# Altium footprint library SCF19XV3001R9A003JV.PcbLib: 1 footprints
Each footprint in its own frame and in the unit in brackets; x right, y up, seen from the top. Pads: shape width x height; smd on the part's side, far side on the other; paste and mask are expansions set on the pad; w line width, h text height; cw(c..) or ccw(c..) is an arc to the next point about the centre after c.
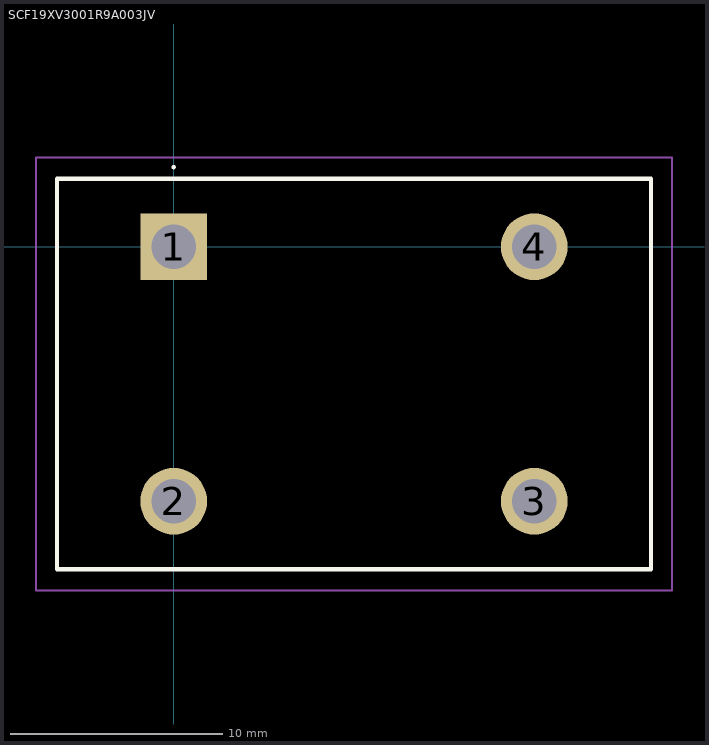
[diagram p0: the footprint, top view; thin cyan lines are the x and y axes]

## SCF19XV3001R9A003JV [mm]
pads (4):
  rect 3.15x3.15 hole 2.1: 1(0,0)
  round 3.15 hole 2.1: 2(0,-12) 3(17,-12) 4(17,0)
Top Overlay:
  lines w0.1: 0,3.7 cw(c0,3.75) 0,3.8 ; 0,3.7 0,3.7 ; 0,3.7 ccw(c0,3.75) 0,3.8 ; 0,3.8 0,3.8
  lines w0.2: -5.5,-15.2 22.5,-15.2 22.5,3.2 -5.5,3.2 -5.5,-15.2
Mechanical 15:
  lines w0.1: -5.5,-15.2 22.5,-15.2 22.5,3.2 -5.5,3.2 -5.5,-15.2
Mechanical 20:
  lines w0.1: -6.5,-16.2 23.5,-16.2 23.5,4.2 -6.5,4.2 -6.5,-16.2